# Altium schematic symbol library Pro-Signal.SchLib: 1 symbol
Pins are listed as number, name and electrical type; pins without a type are passive.

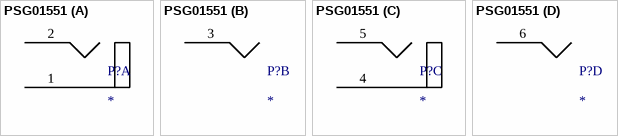
[diagram p0: symbol PSG01551]

## PSG01551
designator P?
4-way RCA connector
footprint RCA 4-way (Vertical RCA connector with 4 connectors)
part A pins: 1 (power) "Ground 1", 2 "Signal 1R"
part B pins: 3 "Signal 1L"
part C pins: 4 (power) "Ground 2", 5 "Signal 2R"
part D pins: 6 "Signal 2R"